# EAGLE library part AD8232ACPZ (library AD8232ACPZ)
ADI ECG and HRM IC Single Lead Source: Datasheet <https://www.analog.com/media/en/technical-documentation/data-sheets/ad8232.pdf>
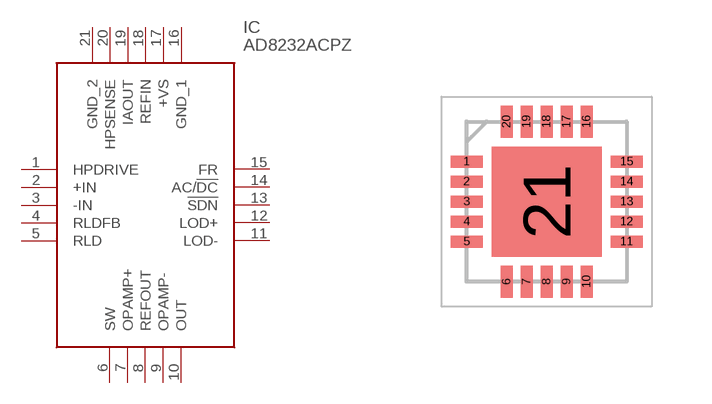
[diagram p0: symbol with the pads of QFN50P400X400X80-21N; footprint QFN50P400X400X80-21N]

Designator prefix IC

## AD8232ACPZ (Description: ADI ECG and HRM IC Single Lead; Height: 0.8mm; Manufacturer_Name: Analog Devices; Manufacturer_Part_Number: AD8232ACPZ; Mouser_Part_Number: N/A; Mouser_Price-Stock: https://www.mouser.co.uk/ProductDetail/Analog-Devices/AD8232ACPZ?qs=%252BEew9%252B0nqrDwrV1NZJDXjA%3D%3D)  [QFN50P400X400X80-21N]
1  HPDRIVE
2  +IN
3  -IN
4  RLDFB
5  RLD
6  SW
7  OPAMP+
8  REFOUT
9  OPAMP-
10  OUT
11  LOD-
12  LOD+
13  !SDN
14  AC/!DC
15  FR
16  GND_1
17  +VS
18  REFIN
19  IAOUT
20  HPSENSE
21  GND_2

## Footprint QFN50P400X400X80-21N (pad centres in mm)
CP-20-8
smd 0.8 x 0.3: 1 -2,1; 2 -2,0.5; 3 -2,0; 4 -2,-0.5; 5 -2,-1; 11 2,-1; 12 2,-0.5; 13 2,0; 14 2,0.5; 15 2,1
smd 0.3 x 0.8: 6 -1,-2; 7 -0.5,-2; 8 0,-2; 9 0.5,-2; 10 1,-2; 16 1,2; 17 0.5,2; 18 0,2; 19 -0.5,2; 20 -1,2
smd 2.75 x 2.75: 21 0,0